# Altium schematic symbol library shared_lib.SchLib: 40 symbols
Pins are listed as number, name and electrical type; pins without a type are passive.

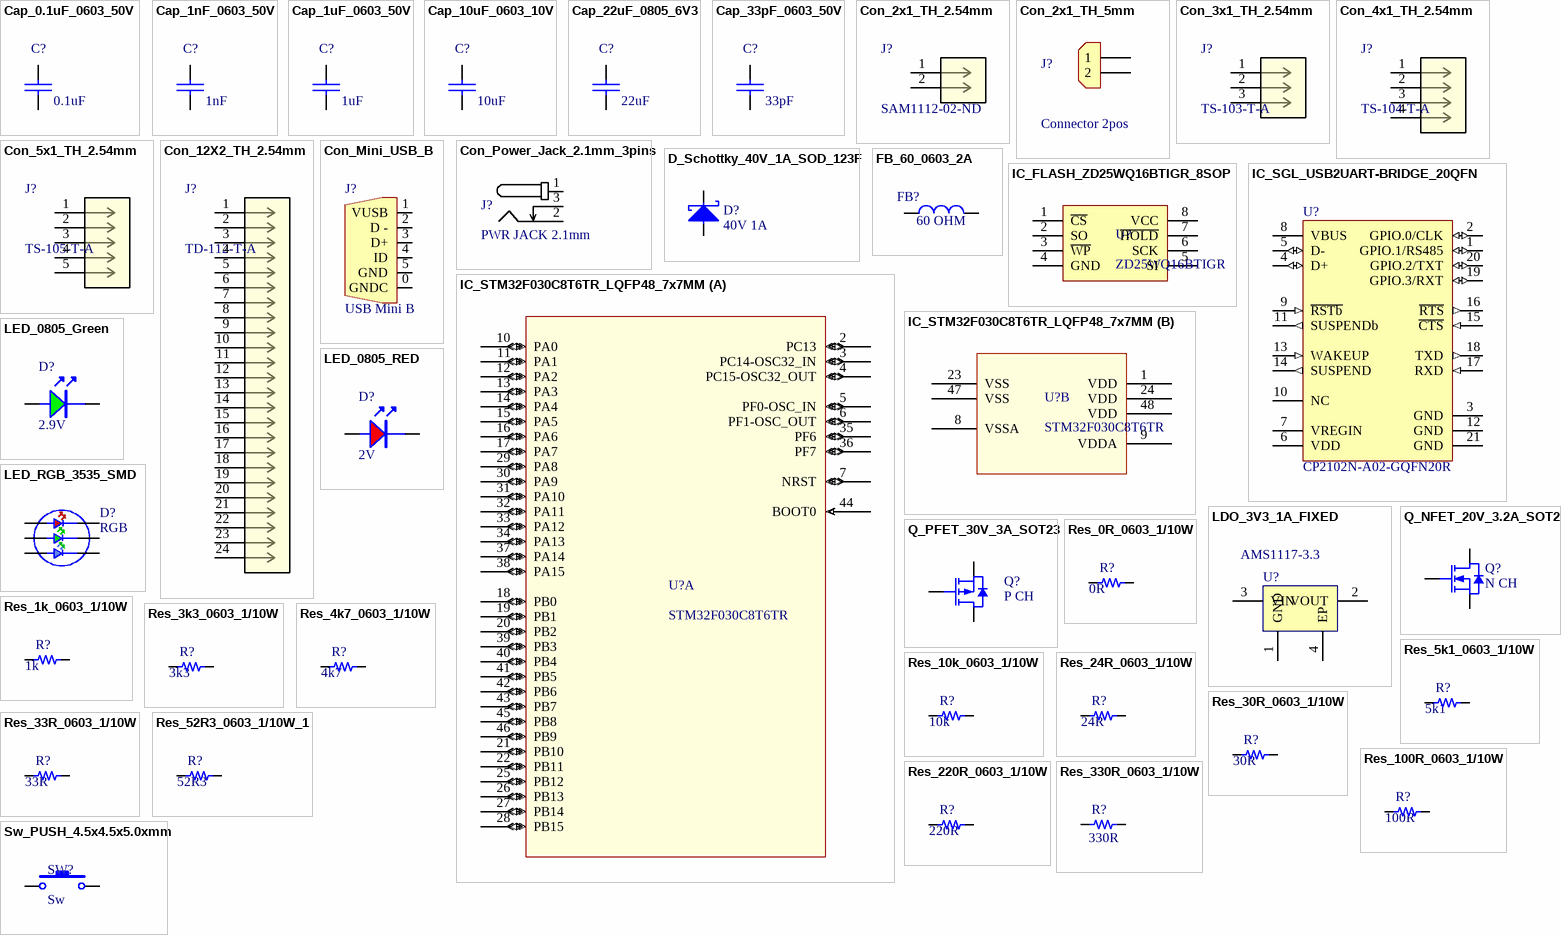
[diagram p0: symbols Cap_0.1uF_0603_50V to Sw_PUSH_4.5x4.5x5.0xmm]

## Cap_0.1uF_0603_50V
designator C?, comment value 0.1uF  (hidden comment: 0.1uF 50V)
50V 100nF Y5V -20%~+80% 0603 Multilayer Ceramic Capacitors MLCC - SMD/SMT ROHS; Manufacturer: Walsin Tech Corp; Manufacturer Part Number: 0603F104Z500CT; Supplier 1: LCSC; Supplier Part Number 1: C83060; ComponentLink1Description: LCSC; ComponentLink1URL: https://www.lcsc.com/product-detail/Multilayer-Ceramic-Capacitors-MLCC-SMD-SMT_Walsin-Tech-Corp-0603F104Z500CT_C83060.html
footprint 0603_cap
pins: 1, 2

## Cap_1nF_0603_50V
designator C?, comment value 1nF  (hidden comment: 1nF 50V)
50V 1nF X7R ±10% 0603 Multilayer Ceramic Capacitors MLCC - SMD/SMT ROHS; Manufacturer: YAGEO; Manufacturer Part Number: CC0603KRX7R9BB102; Supplier 1: LCSC; Supplier Part Number 1: C100040; ComponentLink1Description: LCSC; ComponentLink1URL: https://www.lcsc.com/product-detail/Multilayer-Ceramic-Capacitors-MLCC-SMD-SMT_YAGEO-CC0603KRX7R9BB102_C100040.html
footprint 0603_cap
pins: 1, 2

## Cap_1uF_0603_50V
designator C?, comment value 1uF  (hidden comment: 1uF 50V)
50V 1uF X5R ±10% 0603 Multilayer Ceramic Capacitors MLCC - SMD/SMT ROHS; Manufacturer: Samsung Electro-Mechanics; Manufacturer Part Number: CL10A105KB8NNNC; Supplier 1: LCSC; Supplier Part Number 1: C15849; ComponentLink1Description: LCSC; ComponentLink1URL: https://www.lcsc.com/product-detail/Multilayer-Ceramic-Capacitors-MLCC-SMD-SMT_Samsung-Electro-Mechanics-CL10A105KB8NNNC_C15849.html
footprint 0603_cap
pins: 1, 2

## Cap_10uF_0603_10V
designator C?, comment value 10uF  (hidden comment: 10uF 10V)
10V 10uF X5R ±10% 0603 Multilayer Ceramic Capacitors MLCC - SMD/SMT ROHS; Manufacturer: CCTC; Manufacturer Part Number: TCC0603X5R106K100CT; Supplier 1: LCSC; Supplier Part Number 1: C380314; ComponentLink1Description: LCSC; ComponentLink1URL: https://www.lcsc.com/product-detail/Multilayer-Ceramic-Capacitors-MLCC-SMD-SMT_CCTC-TCC0603X5R106K100CT_C380314.html
footprint 0603_cap
pins: 1, 2

## Cap_22uF_0805_6V3
designator C?, comment value 22uF  (hidden comment: 22uF 6V3)
6.3V 22uF X5R ±20% 0805 Multilayer Ceramic Capacitors MLCC - SMD/SMT ROHS; Manufacturer: Samsung Electro-Mechanics; Manufacturer Part Number: CL21A226MQQNNNE; Supplier 1: LCSC; Supplier Part Number 1: C5674; ComponentLink1Description: LCSC; ComponentLink1URL: https://www.lcsc.com/product-detail/Multilayer-Ceramic-Capacitors-MLCC-SMD-SMT_Samsung-Electro-Mechanics-CL21A226MQQNNNE_C5674.html
footprint 0603_cap
pins: 1, 2

## Cap_33pF_0603_50V
designator C?, comment value 33pF  (hidden comment: 33pF 50V)
50V 33pF NP0 ±5% 0603 Multilayer Ceramic Capacitors MLCC - SMD/SMT ROHS; Manufacturer: YAGEO; Manufacturer Part Number: CC0603JRNPO9BN330; Supplier 1: LCSC; Supplier Part Number 1: C107047; ComponentLink1Description: LCSC; ComponentLink1URL: https://www.lcsc.com/product-detail/Multilayer-Ceramic-Capacitors-MLCC-SMD-SMT_YAGEO-CC0603JRNPO9BN330_C107047.html
footprint 0603_cap
pins: 1, 2

## Con_2x1_TH_2.54mm
designator J?, comment SAM1112-02-ND
CONN HEADER VERT 2POS 2.54MM; Manufacturer: Samtec Inc.; Manufacturer Part Number: TS-102-T-A; Supplier 1: DigiKey; Supplier Part Number 1: SAM1112-02-ND; ComponentLink1Description: Digi-Key; ComponentLink1URL: https://www.digikey.com/en/products/detail/samtec-inc/TS-102-T-A/1105492?_gl=1*1t1dcus*_up*MQ..&gclid=Cj0KCQjw-_mvBhDwARIsAA-Q0Q5KBzpfdY0H_Ffe6QJIFDLMjPjB3ZOAgeyRFeaxKSID7sFc7WuggU8aAnqfEALw_wcB
footprint CON_2X1_TH_2.54mm
pins: 1, 2

## Con_2x1_TH_5mm
designator J?, comment Connector 2pos
2POS 5MM; Manufacturer: JILN; Manufacturer Part Number: JL126-50002G01; Supplier 1: LCSC; Supplier Part Number 1: C394556; ComponentLink1Description: Digi-Key; ComponentLink1URL: https://www.lcsc.com/product-detail/Screw-terminal_JILN-JL126-50002G01_C394556.html
footprint CON_2x1_TH_5MM
pins: 1, 2

## Con_3x1_TH_2.54mm
designator J?, comment TS-103-T-A
CONN HEADER VERT 3POS 2.54MM; Manufacturer: Samtec Inc.; Manufacturer Part Number: TS-103-T-A; Supplier 1: DigiKey; Supplier Part Number 1: SAM1112-03-ND; ComponentLink1Description: Digi-Key; ComponentLink1URL: https://www.digikey.com/en/products/detail/samtec-inc/TS-103-T-A/1105491?_gl=1*1t1dcus*_up*MQ..&gclid=Cj0KCQjw-_mvBhDwARIsAA-Q0Q5KBzpfdY0H_Ffe6QJIFDLMjPjB3ZOAgeyRFeaxKSID7sFc7WuggU8aAnqfEALw_wcB
footprint CON_3X1_TH_2.54mm
pins: 1, 2, 3

## Con_4x1_TH_2.54mm
designator J?, comment TS-104-T-A
CONN HEADER VERT 4POS 2.54MM; Manufacturer: Samtec Inc.; Manufacturer Part Number: TS-104-T-A; Supplier 1: DigiKey; Supplier Part Number 1: SAM1112-04-ND; ComponentLink1Description: Digi-Key; ComponentLink1URL: https://www.digikey.com/en/products/detail/samtec-inc/TS-104-T-A/1105490?_gl=1*1t1dcus*_up*MQ..&gclid=Cj0KCQjw-_mvBhDwARIsAA-Q0Q5KBzpfdY0H_Ffe6QJIFDLMjPjB3ZOAgeyRFeaxKSID7sFc7WuggU8aAnqfEALw_wcB
footprint CON_4X1_TH_2.54mm
pins: 1, 2, 3, 4

## Con_5x1_TH_2.54mm
designator J?, comment TS-105-T-A
CONN HEADER VERT 5POS 2.54MM; Manufacturer: Samtec Inc.; Manufacturer Part Number: TS-105-T-A; Supplier 1: DigiKey; Supplier Part Number 1: SAM1112-05-ND; ComponentLink1Description: Digi-Key; ComponentLink1URL: https://www.digikey.com/en/products/detail/samtec-inc/TS-105-T-A/1105489?_gl=1*1t1dcus*_up*MQ..&gclid=Cj0KCQjw-_mvBhDwARIsAA-Q0Q5KBzpfdY0H_Ffe6QJIFDLMjPjB3ZOAgeyRFeaxKSID7sFc7WuggU8aAnqfEALw_wcB
footprint CON_5X1_TH_2.54mm
pins: 1, 2, 3, 4, 5

## Con_12X2_TH_2.54mm
designator J?, comment TD-112-T-A
CONN HEADER VERT 24POS 2.54MM; Manufacturer: Samtec Inc.; Manufacturer Part Number: TD-112-T-A; Supplier 1: DigiKey; Supplier Part Number 1: SAM1114-12-ND; ComponentLink1Description: Digi-Key; ComponentLink1URL: https://www.digikey.com/en/products/detail/samtec-inc/TD-112-T-A/1105546
footprint CON_12X2_TH_2.54mm
pins: 1, 2, 3, 4, 5, 6, 7, 8, 9, 10, 11, 12, 13, 14, 15, 16, 17, 18, 19, 20, 21, 22, 23, 24

## Con_Mini_USB_B
designator J?, comment USB Mini B
CONN RCPT USB2.0 MINI B SMD R/A; Manufacturer Part Number: KH-MINI-SMT-5P-Cu; Manufacturer: EDAC Inc.; ComponentLink1Description: LCSC; ComponentLink1URL: https://datasheet.lcsc.com/lcsc/2106070035_Shenzhen-Kinghelm-Elec-KH-MINI-SMT-5P-Cu_C2688795.pdf; Supplier 1: LCSC; Supplier Part Number 1: C2688795
footprint CON_5x1_SMD_miniUSB_B (20190328 / V-A.Patino)
pins: 0 GNDC, 1 VUSB, 2 D -, 3 D+, 4 ID, 5 GND

## Con_Power_Jack_2.1mm_3pins
designator J?, comment PWR JACK 2.1mm
CONN PWR JACK 2X5.5MM SOLDER; Manufacturer: HCTL; Manufacturer Part Number: HC-DC-005-2.0T; Supplier 1: LCSC; Supplier Part Number 1: C3010533; ComponentLink1Description: LCSC; ComponentLink1URL: https://www.lcsc.com/product-detail/AC-DC-Power-Connectors_HCTL-HC-DC-005-2-0T_C3010533.html
footprint CON_POWER_BARREL_2.1MM_3CONN (/ 20190222 / C-A.Serna.A)
pins: 1, 2, 3

## D_Schottky_40V_1A_SOD_123F
designator D?, comment 40V 1A
DIODE SCHOTTKY 40V 1A SOD123F; Manufacturer: Shanghai Prisemi Elec; Manufacturer Part Number: PSBD1DF40V1H; Supplier 1: LCSC; Supplier Part Number 1: C110730; ComponentLink1Description: LCSC; ComponentLink1URL: https://www.lcsc.com/product-detail/Switching-Diode_Shanghai-Prisemi-Elec-PSBD1DF40V1H_C110730.html
footprint SOD_123 (/ 20191030 / V-A.Patino)
pins: 1, 2

## FB_60_0603_2A
designator FB?, comment value 60 OHM  (hidden comment: 60OHM 2A)
2A 1 100mΩ 60Ω@100MHz ±25% 0603 Ferrite Beads ROHS; Manufacturer: TAI-TECH; Manufacturer Part Number: HCB1608KF-600T20; ComponentLink1Description: LCSC; ComponentLink1URL: https://www.lcsc.com/product-detail/Ferrite-Beads_TAI-TECH-HCB1608KF-600T20_C369516.html; Supplier 1: LCSC; Supplier Part Number 1: C369516
footprint 0603_fb
pins: 1, 2

## IC_FLASH_ZD25WQ16BTIGR_8SOP
designator U?, comment ZD25WQ16BTIGR
IC FLASH 16M SPI 85MHZ 8SOP; Manufacturer: Zetta; Manufacturer Part Number: ZD25WQ16BTIGR; Supplier 1: LCSC; Supplier Part Number 1: C2896790; ComponentLink1Description: LCSC; ComponentLink1URL: https://www.lcsc.com/product-detail/NOR-FLASH_Zetta-ZD25WQ16BTIGR_C2896790.html
footprint SOIC_8_3.9mm (/ 20190225 / C-A.Serna.A)
pins: 1 ~{CS}, 2 SO, 3 ~{WP}, 4 GND, 5 SI, 6 SCK, 7 ~{HOLD}, 8 VCC

## IC_SGL_USB2UART-BRIDGE_20QFN
designator U?, comment CP2102N-A02-GQFN20R
IC USB TO UART BRIDGE QFN20; Manufacturer: Silicon Labs; Manufacturer Part Number: CP2102N-A02-GQFN20R; Supplier 1: LCSC; Supplier Part Number 1: C969913; ComponentLink1Description: LCSC; ComponentLink1URL: https://www.lcsc.com/product-detail/USB-ICs_SILICON-LABS-CP2102N-A02-GQFN20R_C969913.html
footprint WFQFN_20_EP_3X3MM (QFN_20/ 20210809/ V-A.Patino)
pins: 1 GPIO.1/RS485 (io), 2 GPIO.0/CLK (io), 3 GND (power) "Ground", 4 D+ (io) "USB Data Positive", 5 D- (io) "USB Data Negative", 6 VDD (power) "Supply Power Input/5V Regulator Output", 7 VREGIN (power) "5V Regulator Input", 8 VBUS (power) "Digital Input. VBUS Sense Input. This pin should be connected to the VBUS signal of a USBnetwork. A 5 V signal on this pin indicates a USB network connection", 9 ~{RSTb} (in) "Active-low Reset", 10 NC "No Connect (leave this pin floating)", 11 SUSPENDb (out) "Digital Output. This pin is driven low when the device enters the USB suspend state.", 12 GND (power) "Ground", 13 WAKEUP (in) "Digital Input. Remote USB wakeup interrupt input.", 14 SUSPEND (out) "Digital Output. This pin is driven high when the device enters the USB suspend state", 15 ~{CTS} (in) "Digital Input. Clear To Send control input (active low).", 16 ~{RTS} (out) "Digital Output. Ready To Send control output (active low).", 17 RXD (in) "Digital Input. Asynchronous data input (UART Receive).", 18 TXD (out) "Digital Output. Asynchronous data output (UART Transmit)", 19 GPIO.3/RXT (io), 20 GPIO.2/TXT (io), 21 GND (power) "Ground"

## IC_STM32F030C8T6TR_LQFP48_7x7MM
designator U?, comment STM32F030C8T6TR
IC MCU 32BIT 64KB FLASH 48LQFP; Manufacturer: STMicroelectronics; Manufacturer part number: STM32F030C8T6TR; Supplier 1: LCSC; Supplier Part Number 1: C23922; ComponentLink1Description: LCSC; ComponentLink1URL: https://www.lcsc.com/product-detail/ST-Microelectronics_STMicroelectronics-STM32F030C8T6_C23922.html
footprint LQFP48_7x7mm
part A pins: 2 PC13 (io), 3 PC14-OSC32_IN (io), 4 PC15-OSC32_OUT (io), 5 PF0-OSC_IN (io), 6 PF1-OSC_OUT (io), 7 NRST (io), 10 PA0 (io), 11 PA1 (io), 12 PA2 (io), 13 PA3 (io), 14 PA4 (io), 15 PA5 (io), 16 PA6 (io), 17 PA7 (io), 18 PB0 (io), 19 PB1 (io), 20 PB2 (io), 21 PB10 (io), 22 PB11 (io), 25 PB12 (io), 26 PB13 (io), 27 PB14 (io), 28 PB15 (io), 29 PA8 (io), 30 PA9 (io), 31 PA10 (io), 32 PA11 (io), 33 PA12 (io), 34 PA13 (io), 35 PF6 (io), 36 PF7 (io), 37 PA14 (io), 38 PA15 (io), 39 PB3 (io), 40 PB4 (io), 41 PB5 (io), 42 PB6 (io), 43 PB7 (io), 44 BOOT0 (in), 45 PB8 (io), 46 PB9 (io)
part B pins: 1 VDD (power), 8 VSSA (power), 9 VDDA (power), 23 VSS (power), 24 VDD (power), 47 VSS (power), 48 VDD (power)

## LDO_3V3_1A_FIXED
designator U?, comment AMS1117-3.3
1A 60dB@(120Hz) Fixed 3.3V Positive 18V SOT-223 Linear Voltage Regulators (LDO) ROHS; Manufacturer: UMW(Youtai Semiconductor Co., Ltd.); ComponentLink1Description: LCSC; ComponentLink1URL: https://www.lcsc.com/product-detail/_UMW-Youtai-Semiconductor-Co-Ltd-_C347222.html; Supplier 1: LCSC; Manufacturer Part Number: AMS1117-3.3; Supplier Part Number 1: C347222
footprint SOT_223 (TO-261-4, TO-261AA / 20190829 / M-X.Arias)
pins: 1 GND, 2 VOUT, 3 VIN, 4 EP

## LED_0805_Green
designator D?, comment 2.9V
LED GREEN CLEAR 0805 SMD; Manufacturer: XINGLIGHT; Manufacturer Part Number: XL-2012UGC; Supplier 1: LCSC; Supplier Part Number 1: C965815; ComponentLink1Description: LCSC; ComponentLink1URL: https://www.lcsc.com/product-detail/Light-Emitting-Diodes-LED_XINGLIGHT-XL-2012UGC_C965815.html
footprint 0805_LED
pins: 1 A, 2

## LED_0805_RED
designator D?, comment 2V
LED RED CLEAR 0805 SMD; Manufacturer: XINGLIGHT; Manufacturer Part Number: XL-2012SURC; Supplier 1: LCSC; Supplier Part Number 1: C965812; ComponentLink1Description: LCSC; ComponentLink1URL: https://www.lcsc.com/product-detail/Light-Emitting-Diodes-LED_XINGLIGHT-XL-2012SURC_C965812.html
footprint 0805_LED
pins: 1 A, 2

## LED_RGB_3535_SMD
designator D?, comment RGB
-30℃~+85℃ RGB 110° 3535(mm) Light Emitting Diodes (LED) ROHS; Manufacturer: Foshan NationStar Optoelectronics; Manufacturer Part Number: RS-3535MWAM; Supplier 1: LCSC; Supplier Part Number 1: C842778; ComponentLink1Description: LCSC; ComponentLink1URL: https://www.lcsc.com/product-detail/Light-Emitting-Diodes-LED_Foshan-NationStar-Optoelectronics-RS-3535MWAM_C842778.html
footprint RGB_NS_3.5X3.7
pins: 1, 2, 3, 4, 5, 6

## Q_NFET_20V_3.2A_SOT23
designator Q?, comment N CH
MOSFET N-CH 20V SOT23; Manufacturer: Doeshare; Manufacturer Part Number: DN2302S; Supplier 1: LCSC; Supplier Part Number 1: C2931750; ComponentLink1Description: LCSC; ComponentLink1URL: https://www.lcsc.com/product-detail/MOSFETs_Doeshare-DN2302S_C2931750.html
footprint SOT_23_3 (TO-236-3, SC-59/ 20220901 / V-A.Patino)
pins: 1 G, 2 S, 3 D

## Q_PFET_30V_3A_SOT23
designator Q?, comment P CH
MOSFET P-CH 20V 3A SOT23; Manufacturer: ALLPOWER(ShenZhen Quan Li Semiconductor); Manufacturer Part Number: AP2301; Supplier 1: LCSC; Supplier Part Number 1: C385296; ComponentLink1Description: LCSC; ComponentLink1URL: https://www.lcsc.com/product-detail/MOSFETs_ALLPOWER-ShenZhen-Quan-Li-Semiconductor-AP2301_C385296.html
footprint SOT_23_3 (TO-236-3, SC-59/ 20220901 / V-A.Patino)
pins: 1 G, 2 S, 3 D

## Res_0R_0603_1/10W
designator R?, comment value 0R  (hidden comment: 0R 1/10W)
RES SMD 0R OHM 5% 1/10W 0603; Manufacturer: FOJAN; Manufacturer Part Number: FRC0603P000 TS; ComponentLink1URL: https://www.lcsc.com/product-detail/Chip-Resistor-Surface-Mount_FOJAN-FRC0603P000-TS_C2907080.html; Supplier 1: LCSC; Supplier Part Number 1: C2907080; ComponentLink1Description: LCSC
footprint 0603_res (1608 Metric / 20190225 / C-A.Serna.A)
pins: 1, 2

## Res_1k_0603_1/10W
designator R?, comment value 1k  (hidden comment: 1k 1/10W)
RES SMD 1k OHM 5% 1/10W 0603; Manufacturer: FOJAN; Manufacturer Part Number: FRC0603J102 TS; ComponentLink1URL: https://www.lcsc.com/product-detail/Chip-Resistor-Surface-Mount_FOJAN-FRC0603J102-TS_C2907113.html; Supplier 1: LCSC; Supplier Part Number 1: C2907113; ComponentLink1Description: LCSC
footprint 0603_res (1608 Metric / 20190225 / C-A.Serna.A)
pins: 1, 2

## Res_3k3_0603_1/10W
designator R?, comment value 3k3  (hidden comment: 3k3 1/10W)
RES SMD 3k3 OHM 5% 1/10W 0603; Manufacturer: FOJAN; Manufacturer Part Number: FRC0603J332 TS; ComponentLink1URL: https://www.lcsc.com/product-detail/Chip-Resistor-Surface-Mount_FOJAN-FRC0603J332-TS_C2907140.html; Supplier 1: LCSC; Supplier Part Number 1: C2907140; ComponentLink1Description: LCSC
footprint 0603_res (1608 Metric / 20190225 / C-A.Serna.A)
pins: 1, 2

## Res_4k7_0603_1/10W
designator R?, comment value 4k7  (hidden comment: 4k7 1/10W)
RES SMD 4k7 OHM 5% 1/10W 0603; Manufacturer: FOJAN; Manufacturer Part Number: FRC0603J472 TS; ComponentLink1URL: https://www.lcsc.com/product-detail/Chip-Resistor-Surface-Mount_FOJAN-FRC0603J472-TS_C2907166.html; Supplier 1: LCSC; Supplier Part Number 1: C2907166; ComponentLink1Description: LCSC
footprint 0603_res (1608 Metric / 20190225 / C-A.Serna.A)
pins: 1, 2

## Res_5k1_0603_1/10W
designator R?, comment value 5k1  (hidden comment: 5k1 1/10W)
RES SMD 5k1 OHM 5% 1/10W 0603; Manufacturer: FOJAN; Manufacturer Part Number: FRC0603J512 TS; ComponentLink1URL: https://www.lcsc.com/product-detail/Chip-Resistor-Surface-Mount_FOJAN-FRC0603J512-TS_C2907114.html; Supplier 1: LCSC; Supplier Part Number 1: C2907114; ComponentLink1Description: LCSC
footprint 0603_res (1608 Metric / 20190225 / C-A.Serna.A)
pins: 1, 2

## Res_10k_0603_1/10W
designator R?, comment value 10k  (hidden comment: 10k 1/10W)
RES SMD 10k OHM 5% 1/10W 0603; Manufacturer: FOJAN; Manufacturer Part Number: FRC0603J103TS; ComponentLink1URL: https://www.lcsc.com/product-detail/Chip-Resistor-Surface-Mount_FOJAN-FRC0603J103TS_C2930027.html; Supplier 1: LCSC; Supplier Part Number 1: C2930027; ComponentLink1Description: LCSC
footprint 0603_res (1608 Metric / 20190225 / C-A.Serna.A)
pins: 1, 2

## Res_24R_0603_1/10W
designator R?, comment value 24R  (hidden comment: 24R 1/10W)
RES SMD 24R OHM 5% 1/10W 0603; Manufacturer: FOJAN; Manufacturer Part Number: FRC0603J240 TS; ComponentLink1URL: https://www.lcsc.com/product-detail/Chip-Resistor-Surface-Mount_FOJAN-FRC0603J240-TS_C2907132.html; Supplier 1: LCSC; Supplier Part Number 1: C2907132; ComponentLink1Description: LCSC
footprint 0603_res (1608 Metric / 20190225 / C-A.Serna.A)
pins: 1, 2

## Res_30R_0603_1/10W
designator R?, comment value 30R  (hidden comment: 30 1/10W)
RES SMD 30R OHM 1% 1/10W 0603; Manufacturer: FOJAN; Manufacturer Part Number: FRC0603F30R0TS; ComponentLink1URL: https://www.lcsc.com/product-detail/Chip-Resistor-Surface-Mount_FOJAN-FRC0603F30R0TS_C2907026.html; Supplier 1: LCSC; Supplier Part Number 1: C2907026; ComponentLink1Description: LCSC
footprint 0603_res (1608 Metric / 20190225 / C-A.Serna.A)
pins: 1, 2

## Res_33R_0603_1/10W
designator R?, comment value 33R  (hidden comment: 33R 1/10W)
RES SMD 33R OHM 5% 1/10W 0603; Manufacturer: FOJAN; Manufacturer Part Number: FRC0603J330 TS; ComponentLink1URL: https://www.lcsc.com/product-detail/Chip-Resistor-Surface-Mount_FOJAN-FRC0603J330-TS_C2907154.html; Supplier 1: LCSC; Supplier Part Number 1: C2907154; ComponentLink1Description: LCSC
footprint 0603_res (1608 Metric / 20190225 / C-A.Serna.A)
pins: 1, 2

## Res_52R3_0603_1/10W_1
designator R?, comment value 52R3  (hidden comment: 52R3 1/10W)
RES SMD 52R3 OHM 1% 1/10W 0603; Manufacturer: FOJAN; Manufacturer Part Number: FRC0603F52R3TS; ComponentLink1URL: https://www.lcsc.com/product-detail/Chip-Resistor-Surface-Mount_FOJAN-FRC0603F52R3TS_C2998074.html; Supplier 1: LCSC; Supplier Part Number 1: C2998074; ComponentLink1Description: LCSC
footprint 0603_res (1608 Metric / 20190225 / C-A.Serna.A)
pins: 1, 2

## Res_100R_0603_1/10W
designator R?, comment value 100R  (hidden comment: 100R 1/10W)
RES SMD 100R OHM 5% 1/10W 0603; Manufacturer: FOJAN; Manufacturer Part Number: FRC0603J101 TS; ComponentLink1URL: https://www.lcsc.com/product-detail/Chip-Resistor-Surface-Mount_FOJAN-FRC0603J101-TS_C2907089.html; Supplier 1: LCSC; Supplier Part Number 1: C2907089; ComponentLink1Description: LCSC
footprint 0603_res (1608 Metric / 20190225 / C-A.Serna.A)
pins: 1, 2

## Res_220R_0603_1/10W
designator R?, comment value 220R  (hidden comment: 220R 1/10W)
RES SMD 220R OHM 5% 1/10W 0603; Manufacturer: FOJAN; Manufacturer Part Number: FRC0603J221 TS; ComponentLink1URL: https://www.lcsc.com/product-detail/Chip-Resistor-Surface-Mount_FOJAN-FRC0603J221-TS_C2907127.html; Supplier 1: LCSC; Supplier Part Number 1: C2907127; ComponentLink1Description: LCSC
footprint 0603_res (1608 Metric / 20190225 / C-A.Serna.A)
pins: 1, 2

## Res_330R_0603_1/10W
designator R?, comment value 330R  (hidden comment: 330R 1/10W)
RES SMD 330R OHM 5% 1/10W 0603; Manufacturer: FOJAN; Manufacturer Part Number: FRC0603J331 TS; ComponentLink1URL: https://www.lcsc.com/product-detail/Chip-Resistor-Surface-Mount_FOJAN-FRC0603J331-TS_C2907152.html; Supplier 1: LCSC; Supplier Part Number 1: C2907152; ComponentLink1Description: LCSC
footprint 0603_res (1608 Metric / 20190225 / C-A.Serna.A)
pins: 1, 2

## Sw_PUSH_4.5x4.5x5.0xmm
designator SW?, comment Sw
SWITCH TACTILE SPST-NO 0.05A 12V; Manufacturer: BZCN; Manufacturer Part Number: TSC015A05026A; Supplier 1: LCSC; Supplier Part Number 1: C2888509; Last modified by: N-A.Potosi; Last modified date: 20190222; ComponentLink1Description: LCSC; ComponentLink1URL: https://www.lcsc.com/product-detail/Tactile-Switches_BZCN-TSC015A05026A_C2888509.html
footprint Sw_PUSH_4.5x4.5x5mm
pins: 1, 2

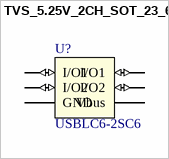
[diagram p1: symbol TVS_5.25V_2CH_SOT_23_6]

## TVS_5.25V_2CH_SOT_23_6
designator U?, comment USBLC6-2SC6
TVS DIODE 5.25V 17V SOT23-6; Manufacturer: STMicroelectronics; ComponentLink1Description: LCSC; ComponentLink1URL: https://www.lcsc.com/product-detail/ESD-Protection-Devices_STMicroelectronics-USBLC6-2SC6_C7519.html; Supplier 1: LCSC; Manufacturer Part Number: USBLC6-2SC6; Supplier Part Number 1: C7519
footprint SOT_23_6 (/ 20190225 / V-A.Patino)
pins: 1 I/O1 (io), 2 GND (power), 3 I/O2 (io), 4 I/O2 (io), 5 Vbus (power), 6 I/O1 (io)